# Altium footprint library Oscillator.PcbLib: 70 footprints (part 1 of 5)
Each footprint in its own frame and in the unit in brackets; x right, y up, seen from the top. Pads: shape width x height; smd on the part's side, far side on the other; paste and mask are expansions set on the pad; w line width, h text height; cw(c..) or ccw(c..) is an arc to the next point about the centre after c.
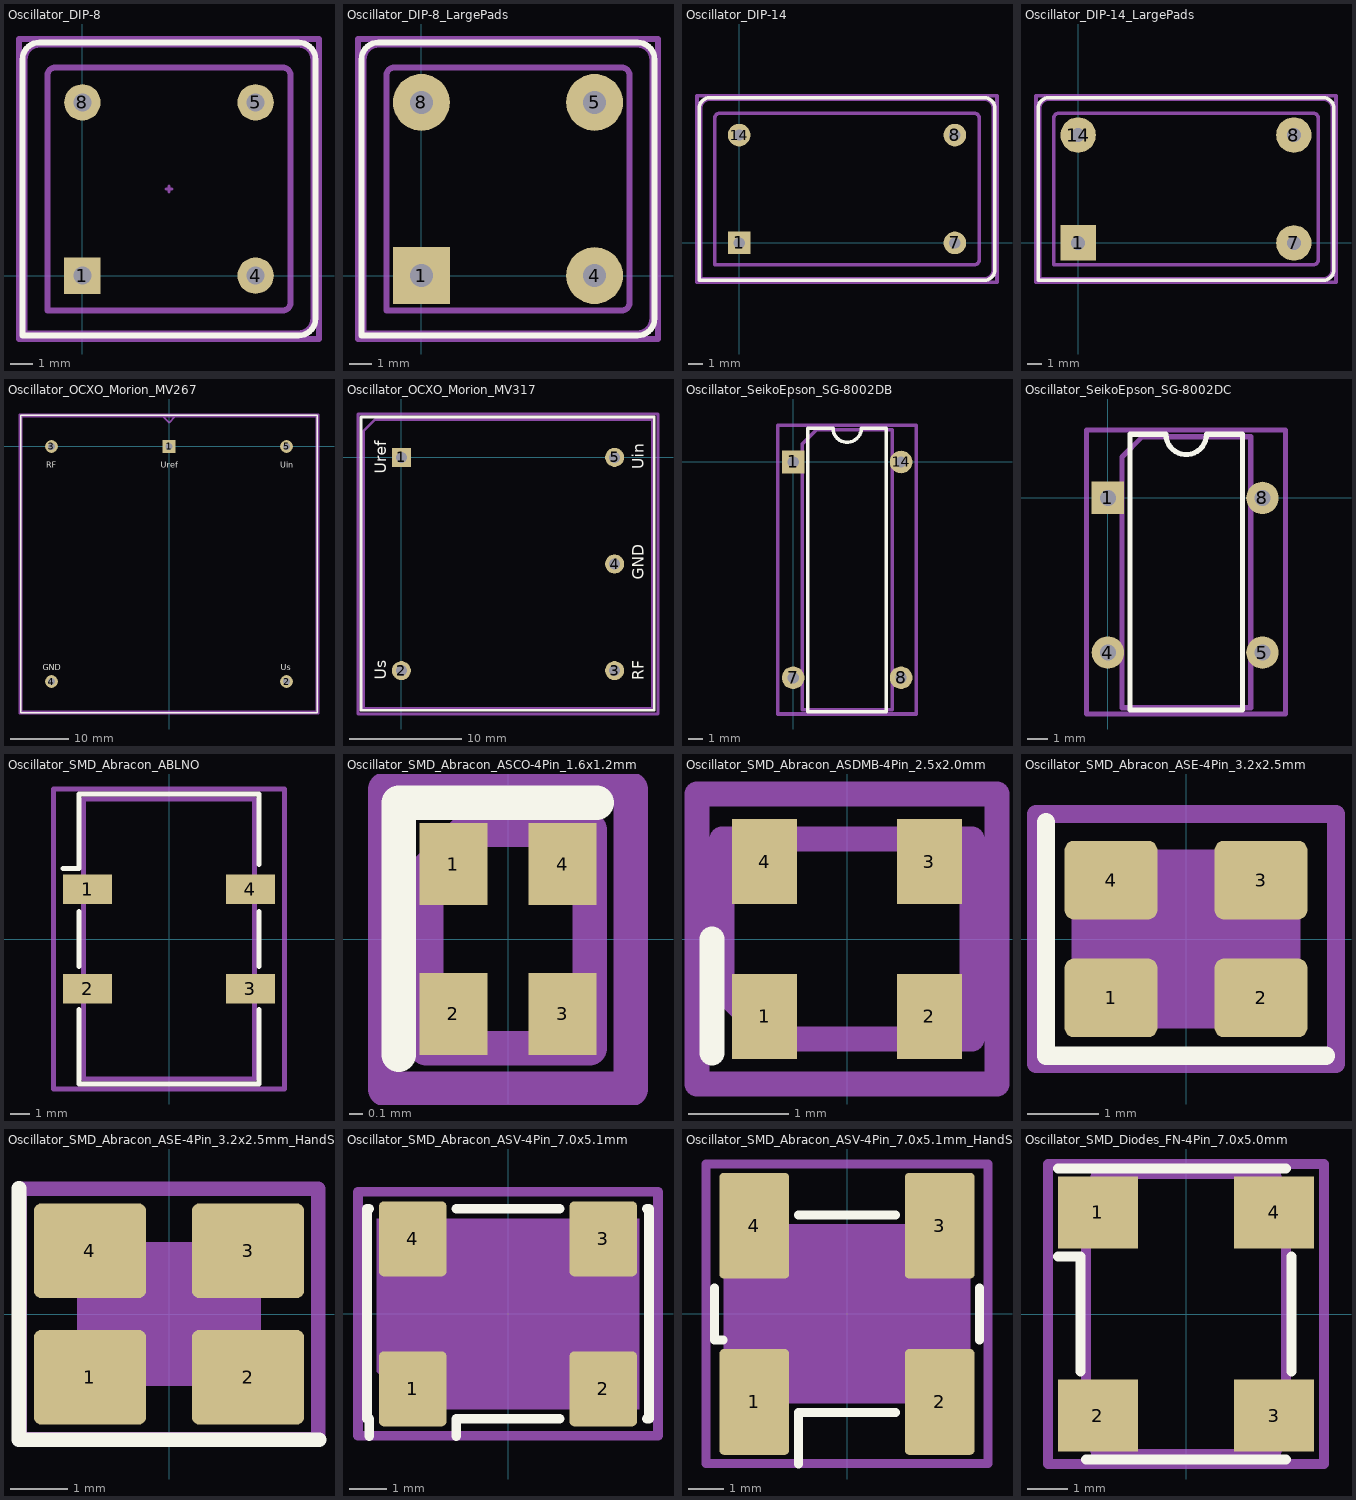
[diagram p0: the footprints below, top view; thin cyan lines are the x and y axes]

## Oscillator_DIP-8 [mm]
pads (4):
  rect 1.6x1.6 hole 0.8: 1(0,0)
  round 1.6 hole 0.8: 4(7.62,0) 5(7.62,7.62) 8(0,7.62)
F.SilkS:
  lines w0.254: -2.64,-2.64 9.51,-2.64 ccw(c9.51,-1.89) 10.26,-1.89 10.26,9.51 ccw(c9.51,9.51) 9.51,10.26 -1.89,10.26 ccw(c-1.89,9.51) -2.64,9.51 -2.64,-2.64
Top Component Center:
  lines w0.127: 3.683,3.81 3.937,3.81 ; 3.81,3.683 3.81,3.937
Top Assembly:
  lines w0.254: -2.54,-2.54 9.51,-2.54 ccw(c9.51,-1.89) 10.16,-1.89 10.16,9.51 ccw(c9.51,9.51) 9.51,10.16 -1.89,10.16 ccw(c-1.89,9.51) -2.54,9.51 -2.54,-2.54 ; -1.54,-1.54 8.81,-1.54 ccw(c8.81,-1.19) 9.16,-1.19 9.16,8.81 ccw(c8.81,8.81) 8.81,9.16 -1.19,9.16 ccw(c-1.19,8.81) -1.54,8.81 -1.54,-1.54
  text "'.Designator'" at -0.237,2.97 h1
Top Courtyard:
  lines w0.254: -2.79,-2.79 10.41,-2.79 10.41,10.41 -2.79,10.41 -2.79,-2.79
Top Designator:
  text ".Designator" at -3.808,3.302 h1.52
3D body "Oscillator_DIP-8.step": height 5.88, standoff -2.2, extent -2.645,-2.54 10.055,10.16

## Oscillator_DIP-8_LargePads [mm]
pads (4):
  rect 2.5x2.5 hole 1: 1(0,0)
  round 2.5 hole 1: 4(7.62,0) 5(7.62,7.62) 8(0,7.62)
F.SilkS:
  lines w0.254: -2.64,-2.64 -2.64,9.51 cw(c-1.89,9.51) -1.89,10.26 9.51,10.26 cw(c9.51,9.51) 10.26,9.51 10.26,-1.89 cw(c9.51,-1.89) 9.51,-2.64 -2.64,-2.64
Top Assembly:
  lines w0.254: -2.54,-2.54 -2.54,9.51 cw(c-1.89,9.51) -1.89,10.16 9.51,10.16 cw(c9.51,9.51) 10.16,9.51 10.16,-1.89 cw(c9.51,-1.89) 9.51,-2.54 -2.54,-2.54 ; -1.54,-1.54 -1.54,8.81 cw(c-1.19,8.81) -1.19,9.16 8.81,9.16 cw(c8.81,8.81) 9.16,8.81 9.16,-1.19 cw(c8.81,-1.19) 8.81,-1.54 -1.54,-1.54
  text "'.Designator'" at -0.237,2.97 h1
Top Courtyard:
  lines w0.254: -2.79,-2.79 -2.79,10.41 10.41,10.41 10.41,-2.79 -2.79,-2.79
Top Designator:
  text ".Designator" at -3.808,3.302 h1.52
3D body "Oscillator_DIP-8.step": height 5.88, standoff -2.2, extent -2.645,-2.54 10.055,10.16

## Oscillator_DIP-14 [mm]
pads (4):
  rect 1.6x1.6 hole 0.8: 1(0,0)
  round 1.6 hole 0.8: 7(15.24,0) 8(15.24,7.62) 14(0,7.62)
F.SilkS:
  lines w0.254: -2.83,-2.64 17.32,-2.64 ccw(c17.32,-1.89) 18.07,-1.89 18.07,9.51 ccw(c17.32,9.51) 17.32,10.26 -2.08,10.26 ccw(c-2.08,9.51) -2.83,9.51 -2.83,-2.64
Top Assembly:
  lines w0.254: -2.73,-2.54 17.32,-2.54 ccw(c17.32,-1.89) 17.97,-1.89 17.97,9.51 ccw(c17.32,9.51) 17.32,10.16 -2.08,10.16 ccw(c-2.08,9.51) -2.73,9.51 -2.73,-2.54 ; -1.73,-1.54 16.62,-1.54 ccw(c16.62,-1.19) 16.97,-1.19 16.97,8.81 ccw(c16.62,8.81) 16.62,9.16 -1.38,9.16 ccw(c-1.38,8.81) -1.73,8.81 -1.73,-1.54
  text "'.Designator'" at 3.573,2.97 h1
Top Courtyard:
  lines w0.254: -2.98,-2.79 18.22,-2.79 18.22,10.41 -2.98,10.41 -2.98,-2.79
Top Designator:
  text ".Designator" at 0.002,3.302 h1.52
3D body "Oscillator_DIP-14.step": height 5.88, standoff -2.2, extent -2.645,-2.475 17.655,10.225

## Oscillator_DIP-14_LargePads [mm]
pads (4):
  rect 2.5x2.5 hole 1: 1(0,0)
  round 2.5 hole 1: 7(15.24,0) 8(15.24,7.62) 14(0,7.62)
F.SilkS:
  lines w0.254: -2.83,-2.64 17.32,-2.64 ccw(c17.32,-1.89) 18.07,-1.89 18.07,9.51 ccw(c17.32,9.51) 17.32,10.26 -2.08,10.26 ccw(c-2.08,9.51) -2.83,9.51 -2.83,-2.64
Top Assembly:
  lines w0.254: -2.73,-2.54 17.32,-2.54 ccw(c17.32,-1.89) 17.97,-1.89 17.97,9.51 ccw(c17.32,9.51) 17.32,10.16 -2.08,10.16 ccw(c-2.08,9.51) -2.73,9.51 -2.73,-2.54 ; -1.73,-1.54 16.62,-1.54 ccw(c16.62,-1.19) 16.97,-1.19 16.97,8.81 ccw(c16.62,8.81) 16.62,9.16 -1.38,9.16 ccw(c-1.38,8.81) -1.73,8.81 -1.73,-1.54
  text "'.Designator'" at 3.573,2.97 h1
Top Courtyard:
  lines w0.254: -2.98,-2.79 18.22,-2.79 18.22,10.41 -2.98,10.41 -2.98,-2.79
Top Designator:
  text ".Designator" at 0.002,3.302 h1.52
3D body "Oscillator_DIP-14.step": height 5.88, standoff -2.2, extent -2.645,-2.475 17.655,10.225

## Oscillator_OCXO_Morion_MV267 [mm]
pads (5):
  rect 2.2x2.2 hole 1.2: 1(0,0)
  round 2.2 hole 1.2: 2(20.3,-40.6) 3(-20.3,0) 4(-20.3,-40.6) 5(20.3,0)
F.SilkS:
  lines w0.254: -25.6,-46 -25.6,5.4 25.6,5.4 25.6,-46 -25.6,-46
  text "Us" at 19.317,-38.65 h1
  text "Uin" at 19.234,-3.674 h1
  text "GND" at -21.826,-38.65 h1
  text "Uref" at -1.42,-3.65 h1
  text "RF" at -21.205,-3.65 h1
Top Assembly:
  lines w0.254: -1,5.1 0,4.1 1,5.1 ; -25.4,-45.7 -25.4,5.1 25.4,5.1 25.4,-45.7 -25.4,-45.7
  text "'.Designator'" at -3.897,-22.69 h1
Top Courtyard:
  lines w0.254: -25.9,-46.2 -25.9,5.6 25.9,5.6 25.9,-46.2 -25.9,-46.2
Top Designator:
  text ".Designator" at -7.618,-20.808 h1.52

## Oscillator_OCXO_Morion_MV317 [mm]
pads (5):
  rect 1.7x1.7 hole 1: 1(0,0)
  round 1.7 hole 1: 2(0,-19.05) 3(19.05,-19.05) 4(19.05,-9.525) 5(19.05,0)
F.SilkS:
  lines w0.254: -3.6,-22.6 -3.6,3.6 22.6,3.6 22.6,-22.6 -3.6,-22.6
  text "Uref" at -1.35,-1.44 h1
  text "RF" at 21.65,-19.905 h1
  text "Us" at -1.35,-19.883 h1
  text "Uin" at 21.674,-1.066 h1
  text "GND" at 21.65,-10.926 h1
Top Assembly:
  lines w0.254: -3.375,-22.425 -3.375,2.35 -2.35,3.375 22.425,3.375 22.425,-22.425 -3.375,-22.425
  text "'.Designator'" at 6.003,-11.19 h1
Top Courtyard:
  lines w0.254: -3.88,-22.93 -3.88,3.88 22.93,3.88 22.93,-22.93 -3.88,-22.93
Top Designator:
  text ".Designator" at 1.907,-10.033 h1.52

## Oscillator_SeikoEpson_SG-8002DB [mm]
pads (4):
  rect 1.6x1.6 hole 0.8: 1(0,0)
  rrect100% 1.6x1.6 hole 0.8: 7(0,-15.24) 8(7.62,-15.24) 14(7.62,0)
F.SilkS:
  lines w0.254: 1.04,-17.63 6.58,-17.63 6.58,2.39 4.81,2.39 cw(c3.81,2.39) 2.81,2.39 1.04,2.39 1.04,-17.63
Top Assembly:
  lines w0.254: 0.64,-17.51 6.99,-17.51 6.99,2.27 1.64,2.27 0.64,1.27 0.64,-17.51
  text "'.Designator'" at -0.232,-8.46 h1
Top Courtyard:
  lines w0.254: -1.1,-17.8 8.7,-17.8 8.7,2.6 -1.1,2.6 -1.1,-17.8
Top Designator:
  text ".Designator" at -3.818,-8.108 h1.52
3D body "Oscillator_SeikoEpson_SG-8002DB.step": height 5.5, standoff -3, extent -0.2,-17.52 7.82,2.28

## Oscillator_SeikoEpson_SG-8002DC [mm]
pads (4):
  rect 1.6x1.6 hole 0.8: 1(0,0)
  rrect100% 1.6x1.6 hole 0.8: 4(0,-7.62) 5(7.62,-7.62) 8(7.62,0)
F.SilkS:
  lines w0.254: 1.09,-10.46 6.63,-10.46 6.63,3.14 4.86,3.14 cw(c3.86,3.14) 2.86,3.14 1.09,3.14 1.09,-10.46
Top Assembly:
  lines w0.254: 0.69,-10.34 7.04,-10.34 7.04,3.02 1.69,3.02 0.69,2.02 0.69,-10.34
  text "'.Designator'" at -0.182,-4.5 h1
Top Courtyard:
  lines w0.254: -1.05,-10.65 8.75,-10.65 8.75,3.35 -1.05,3.35 -1.05,-10.65
Top Designator:
  text ".Designator" at -3.768,-4.158 h1.52
3D body "Oscillator_SeikoEpson_SG-8002DC.step": height 5.5, standoff -3, extent -0.2,-10.66 7.82,3.04

## Oscillator_SMD_Abracon_ABLNO [mm]
pads (4):
  rect 2.5x1.5 smd: 1(-4.15,2.54) 2(-4.15,-2.54) 3(4.15,-2.54) 4(4.15,2.54)
F.SilkS:
  lines w0.254: -5.4,3.6 -4.6,3.6 -4.6,7.4 4.6,7.4 4.6,3.8 ; -4.6,-3.6 -4.6,-7.4 4.6,-7.4 4.6,-3.6 ; -4.6,-1.4 -4.6,1.4 ; 4.6,-1.4 4.6,1.4
Top Assembly:
  lines w0.254: -4.35,2 -3.6,2.6 -4.35,3.2 ; -4.35,-7.15 -4.35,7.15 4.35,7.15 4.35,-7.15 -4.35,-7.15
  text "'.Designator'" at -4.047,-0.84 h1
Top Courtyard:
  lines w0.254: -5.9,-7.65 -5.9,7.65 5.9,7.65 5.9,-7.65 -5.9,-7.65
Top Designator:
  text ".Designator" at -7.618,-0.508 h1.52

## Oscillator_SMD_Abracon_ASCO-4Pin_1.6x1.2mm [mm]
pads (4):
  rect 0.5x0.6 smd: 1(-0.4,0.55) 2(-0.4,-0.55) 3(0.4,-0.55) 4(0.4,0.55)
F.SilkS:
  lines w0.254: -0.8,-0.85 -0.8,1 0.65,1
Top Assembly:
  lines w0.254: -0.6,-0.8 0.6,-0.8 0.6,0.8 -0.3,0.8 -0.6,0.5 -0.6,-0.8
  text "'.Designator'" at 0.292,-1.414 h0.35
Top Courtyard:
  lines w0.254: -0.9,-1.1 0.9,-1.1 0.9,1.1 -0.9,1.1 -0.9,-1.1
Top Designator:
  text ".Designator" at -7.618,-0.558 h1.52

## Oscillator_SMD_Abracon_ASDMB-4Pin_2.5x2.0mm [mm]
pads (4):
  rect 0.65x0.85 smd: 1(-0.825,-0.775) 2(0.825,-0.775) 3(0.825,0.775) 4(-0.825,0.775)
F.SilkS:
  lines w0.254: -1.35,-1.14 -1.35,0
Top Assembly:
  lines w0.254: -1.25,-0.5 -0.75,-1 1.25,-1 1.25,1 -1.25,1 -1.25,-0.5
  text "'.Designator'" at -2.443,-0.519 h0.6
Top Courtyard:
  lines w0.254: -1.5,-1.45 1.5,-1.45 1.5,1.45 -1.5,1.45 -1.5,-1.45
Top Designator:
  text ".Designator" at -7.723,-0.508 h1.52

## Oscillator_SMD_Abracon_ASE-4Pin_3.2x2.5mm [mm]
pads (4):
  rrect23% 1.3x1.1 smd: 1(-1.05,-0.825) 2(1.05,-0.825) 3(1.05,0.825) 4(-1.05,0.825)
F.SilkS:
  lines w0.254: -1.96,1.635 -1.96,-1.635 1.96,-1.635
Top Assembly:
  region: 1.6,-1.25 -0.975,-1.25 -1.6,-0.625 -1.6,1.25 1.6,1.25
  text "'.Designator'" at -3.237,-0.672 h0.8
Top Courtyard:
  lines w0.254: -2.1,-1.75 2.1,-1.75 2.1,1.75 -2.1,1.75 -2.1,-1.75
Top Designator:
  text ".Designator" at -7.738,-0.508 h1.52
Top Glue Points:
  circle w0.254: c0,0 r0.25

## Oscillator_SMD_Abracon_ASE-4Pin_3.2x2.5mm_HandSoldering [mm]
pads (4):
  rrect15% 1.95x1.65 smd: 1(-1.375,-1.1) 2(1.375,-1.1) 3(1.375,1.1) 4(-1.375,1.1)
F.SilkS:
  lines w0.254: -2.61,2.185 -2.61,-2.185 2.61,-2.185
Top Assembly:
  region: 1.6,-1.25 -0.975,-1.25 -1.6,-0.625 -1.6,1.25 1.6,1.25
  text "'.Designator'" at -3.237,-0.672 h0.8
Top Courtyard:
  lines w0.254: -2.6,-2.18 2.6,-2.18 2.6,2.18 -2.6,2.18 -2.6,-2.18
Top Designator:
  text ".Designator" at -7.738,-0.508 h1.52
Top Glue Points:
  circle w0.254: c0,0 r0.25

## Oscillator_SMD_Abracon_ASV-4Pin_7.0x5.1mm [mm]
pads (4):
  rrect14% 1.8x2 smd: 1(-2.54,-2) 2(2.54,-2) 3(2.54,2) 4(-2.54,2)
F.SilkS:
  lines w0.254: -3.7,-3.26 -3.7,-2.8 -3.76,-2.8 -3.76,2.8 -3.7,2.8 ; -1.38,-3.26 -1.38,-2.8 1.38,-2.8 ; -1.38,2.8 1.38,2.8 ; 3.7,-2.8 3.76,-2.8 3.76,2.8 3.7,2.8
Top Assembly:
  region: 3.5,-2.54 -2.5,-2.54 -3.5,-1.54 -3.5,2.54 3.5,2.54
  text "'.Designator'" at -4.047,-0.84 h1
Top Courtyard:
  lines w0.254: -4,-3.25 -4,3.25 4,3.25 4,-3.25 -4,-3.25
Top Designator:
  text ".Designator" at -7.652,-0.513 h1.52
Top Glue Points:
  circle w0.254: c0,0 r1
3D body "Oscillator_SMD_Abracon_ASV-4Pin_7.0x5.1mm.step": height 1.84, standoff 0, extent -3.5,-2.54 3.5,2.54

## Oscillator_SMD_Abracon_ASV-4Pin_7.0x5.1mm_HandSoldering [mm]
pads (4):
  rrect13% 1.98x3 smd: 1(-2.63,-2.5) 2(2.63,-2.5) 3(2.63,2.5) 4(-2.63,2.5)
F.SilkS:
  lines w0.254: -3.76,0.74 -3.76,-0.74 -3.52,-0.74 ; -1.38,-4.26 -1.38,-2.8 1.38,-2.8 ; -1.38,2.8 1.38,2.8 ; 3.76,-0.74 3.76,0.74
Top Assembly:
  region: 3.5,-2.54 -2.5,-2.54 -3.5,-1.54 -3.5,2.54 3.5,2.54
  text "'.Designator'" at -4.047,-0.84 h1
Top Courtyard:
  lines w0.254: -4,-4.25 -4,4.25 4,4.25 4,-4.25 -4,-4.25
Top Designator:
  text ".Designator" at -7.652,-0.513 h1.52
Top Glue Points:
  circle w0.254: c0,0 r1
3D body "Oscillator_SMD_Abracon_ASV-4Pin_7.0x5.1mm.step": height 1.84, standoff 0, extent -3.5,-2.54 3.5,2.54

## Oscillator_SMD_Diodes_FN-4Pin_7.0x5.0mm [mm]
pads (4):
  rect 2x1.8 smd: 1(-2.2,2.54) 2(-2.2,-2.54) 3(2.2,-2.54) 4(2.2,2.54)
F.SilkS:
  lines w0.254: -3.2,1.44 -2.64,1.44 -2.64,-1.44 ; -3.2,3.64 2.5,3.64 ; -2.5,-3.64 2.5,-3.64 ; 2.64,-1.44 2.64,1.44
Top Assembly:
  lines w0.254: -2.5,2.5 -1.5,3.5 ; -2.5,-3.25 cw(c-2.5,-3.5) -2.25,-3.5 2.25,-3.5 cw(c2.5,-3.5) 2.5,-3.25 2.5,3.25 cw(c2.5,3.5) 2.25,3.5 -2.25,3.5 cw(c-2.5,3.5) -2.5,3.25 -2.5,-3.25
  text "'.Designator'" at -4.047,-0.84 h1
Top Courtyard:
  lines w0.254: -3.45,-3.75 3.45,-3.75 3.45,3.75 -3.45,3.75 -3.45,-3.75
Top Designator:
  text ".Designator" at -7.768,-0.508 h1.52